# EAGLE library part MIC2545 (library Beechat_crank)
MIC2545 POWER SWICTH
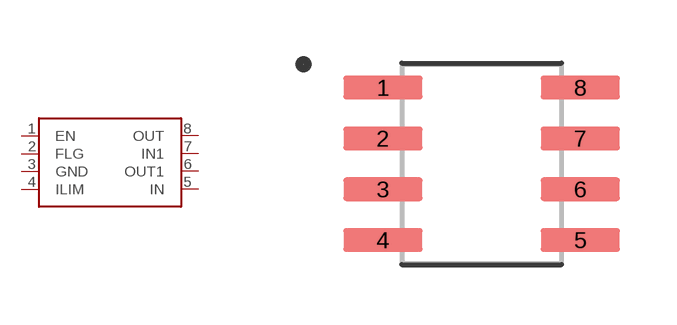
[diagram p3: symbol with the pads of SOIC127P599X173-8N; footprint SOIC127P599X173-8N]

Designator prefix -

## MIC2545  [SOIC127P599X173-8N]
1  EN
2  FLG
3  GND
4  ILIM
5  IN
6  OUT1
7  IN1
8  OUT

## Footprint SOIC127P599X173-8N (pad centres in mm)
MIC254 / 8 PIN SOP
smd 1.98 x 0.59: 1 -2.47,1.905; 2 -2.47,0.635; 3 -2.47,-0.635; 4 -2.47,-1.905; 5 2.47,-1.905; 6 2.47,-0.635; 7 2.47,0.635; 8 2.47,1.905